# EAGLE library part EG4D20EG176 (library anlogic)
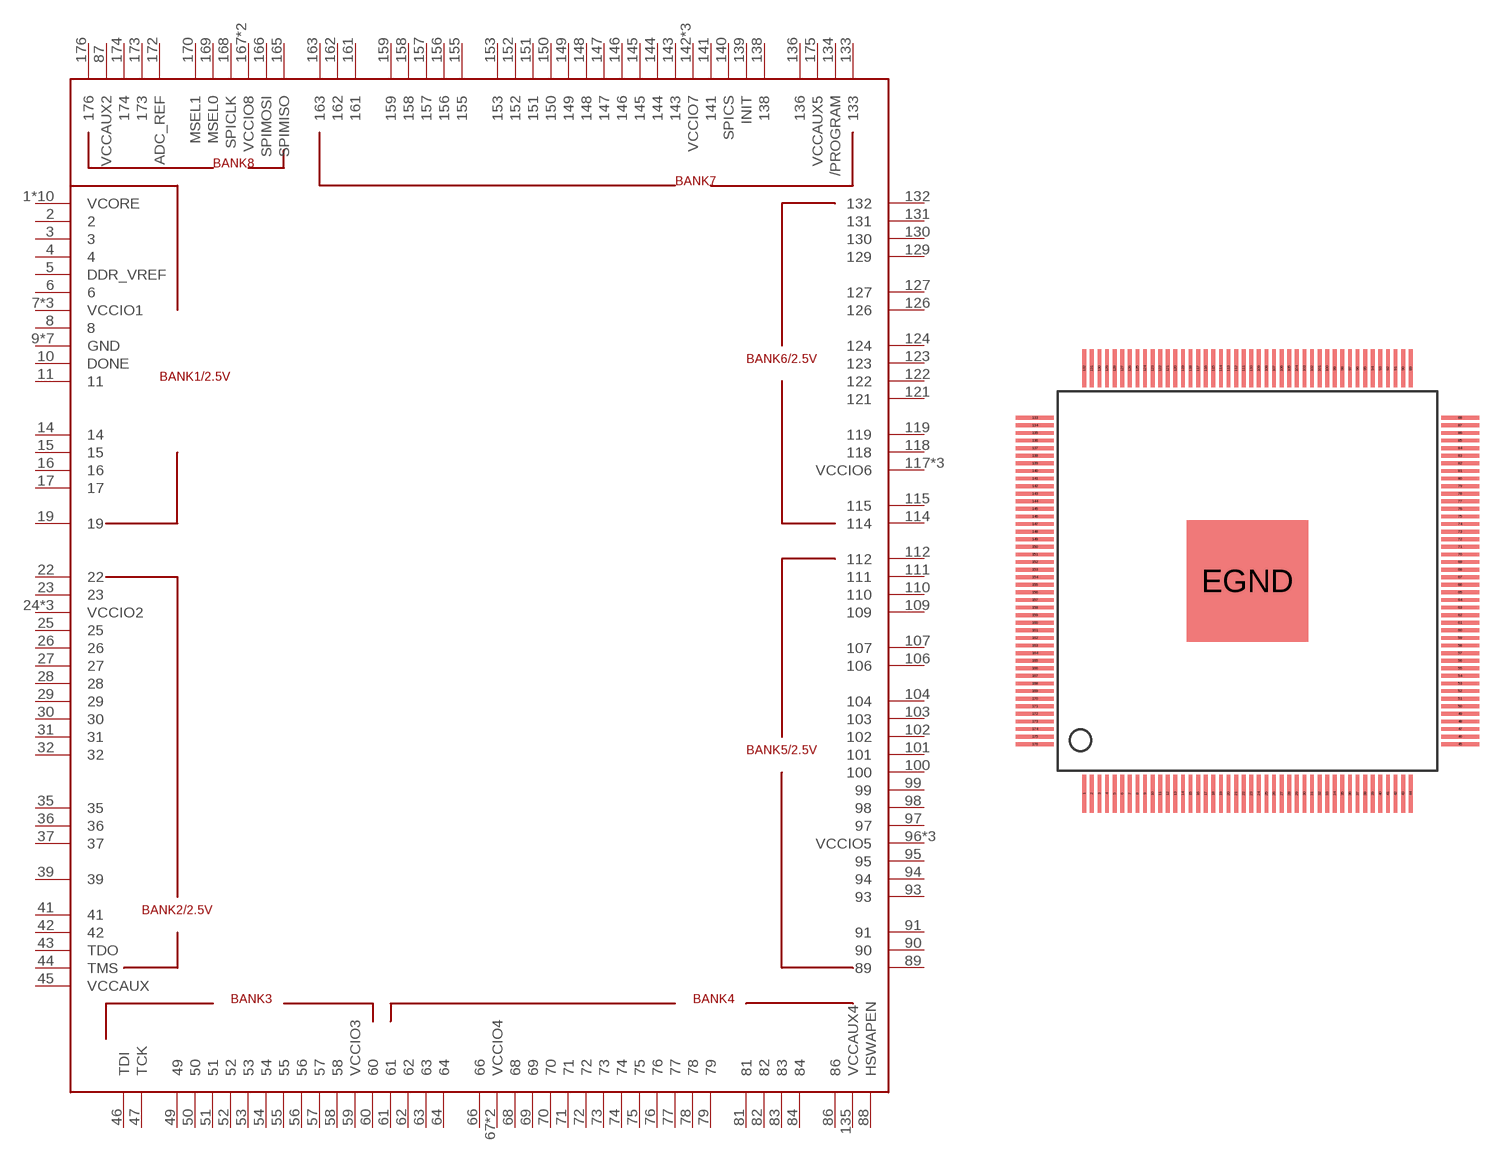
[diagram p1: symbol with the pads of ELQFP176L; footprint ELQFP176L]

Designator prefix -

## EG4D20EG176  [ELQFP176L]
1  VCORE
2  2
3  3
4  4
5  DDR_VREF
6  6
7  VCCIO1
8  8
9  GND
10  DONE
11  11
12  VCCIO1
13  GND
14  14
15  15
16  16
17  17
18  VCCIO1
19  19
20  VCORE
21  GND
22  22
23  23
24  VCCIO2
25  25
26  26
27  27
28  28
29  29
30  30
31  31
32  32
33  GND
34  VCCIO2
35  35
36  36
37  37
38  GND
39  39
40  VCCIO2
41  41
42  42
43  TDO
44  TMS
45  VCCAUX
46  TDI
47  TCK
48  VCORE
49  49
50  50
51  51
52  52
53  53
54  54
55  55
56  56
57  57
58  58
59  VCCIO3
60  60
61  61
62  62
63  63
64  64
65  VCORE
66  66
67  VCCIO4
68  68
69  69
70  70
71  71
72  72
73  73
74  74
75  75
76  76
77  77
78  78
79  79
80  VCCIO4
81  81
82  82
83  83
84  84
85  VCORE
86  86
87  VCCAUX2
88  HSWAPEN
89  89
90  90
91  91
92  VCORE
93  93
94  94
95  95
96  VCCIO5
97  97
98  98
99  99
100  100
101  101
102  102
103  103
104  104
105  VCCIO5
106  106
107  107
108  VCCIO5
109  109
110  110
111  111
112  112
113  VCORE
114  114
115  115
116  GND
117  VCCIO6
118  118
119  119
120  VCCIO6
121  121
122  122
123  123
124  124
125  VCCIO6
126  126
127  127
128  VCORE
129  129
130  130
131  131
132  132
133  133
134  /PROGRAM
135  VCCAUX4
136  136
137  VCORE
138  138
139  INIT
140  SPICS
141  141
142  VCCIO7
143  143
144  144
145  145
146  146
147  147
148  148
149  149
150  150
151  151
152  152
153  153
154  VCCIO7
155  155
156  156
157  157
158  158
159  159
160  VCCIO7
161  161
162  162
163  163
164  VCORE
165  SPIMISO
166  SPIMOSI
167  VCCIO8
168  SPICLK
169  MSEL0
170  MSEL1
171  VCCIO8
172  ADC_REF
173  173
174  174
175  VCCAUX5
176  176
EGND  GND

## Footprint ELQFP176L (pad centres in mm)
smd 0.2 x 2: 1 -8.6,-11.2; 2 -8.2,-11.2; 3 -7.8,-11.2; 4 -7.4,-11.2; 5 -7,-11.2; 6 -6.6,-11.2; 7 -6.2,-11.2; 8 -5.8,-11.2; 9 -5.4,-11.2; 10 -5,-11.2; 11 -4.6,-11.2; 12 -4.2,-11.2; 13 -3.8,-11.2; 14 -3.4,-11.2; 15 -3,-11.2; 16 -2.6,-11.2; 17 -2.2,-11.2; 18 -1.8,-11.2; 19 -1.4,-11.2; 20 -1,-11.2; 21 -0.6,-11.2; 22 -0.2,-11.2; 23 0.2,-11.2; 24 0.6,-11.2; 25 1,-11.2; 26 1.4,-11.2; 27 1.8,-11.2; 28 2.2,-11.2; 29 2.6,-11.2; 30 3,-11.2; 31 3.4,-11.2; 32 3.8,-11.2; 33 4.2,-11.2; 34 4.6,-11.2; 35 5,-11.2; 36 5.4,-11.2; 37 5.8,-11.2; 38 6.2,-11.2; 39 6.6,-11.2; 40 7,-11.2; 41 7.4,-11.2; 42 7.8,-11.2; 43 8.2,-11.2; 44 8.6,-11.2; 89 8.6,11.2; 90 8.2,11.2; 91 7.8,11.2; 92 7.4,11.2; 93 7,11.2; 94 6.6,11.2; 95 6.2,11.2; 96 5.8,11.2; 97 5.4,11.2; 98 5,11.2; 99 4.6,11.2; 100 4.2,11.2; 101 3.8,11.2; 102 3.4,11.2; 103 3,11.2; 104 2.6,11.2; 105 2.2,11.2; 106 1.8,11.2; 107 1.4,11.2; 108 1,11.2; 109 0.6,11.2; 110 0.2,11.2; 111 -0.2,11.2; 112 -0.6,11.2; 113 -1,11.2; 114 -1.4,11.2; 115 -1.8,11.2; 116 -2.2,11.2; 117 -2.6,11.2; 118 -3,11.2; 119 -3.4,11.2; 120 -3.8,11.2; 121 -4.2,11.2; 122 -4.6,11.2; 123 -5,11.2; 124 -5.4,11.2; 125 -5.8,11.2; 126 -6.2,11.2; 127 -6.6,11.2; 128 -7,11.2; 129 -7.4,11.2; 130 -7.8,11.2; 131 -8.2,11.2; 132 -8.6,11.2
smd 2 x 0.2: 45 11.2,-8.6; 46 11.2,-8.2; 47 11.2,-7.8; 48 11.2,-7.4; 49 11.2,-7; 50 11.2,-6.6; 51 11.2,-6.2; 52 11.2,-5.8; 53 11.2,-5.4; 54 11.2,-5; 55 11.2,-4.6; 56 11.2,-4.2; 57 11.2,-3.8; 58 11.2,-3.4; 59 11.2,-3; 60 11.2,-2.6; 61 11.2,-2.2; 62 11.2,-1.8; 63 11.2,-1.4; 64 11.2,-1; 65 11.2,-0.6; 66 11.2,-0.2; 67 11.2,0.2; 68 11.2,0.6; 69 11.2,1; 70 11.2,1.4; 71 11.2,1.8; 72 11.2,2.2; 73 11.2,2.6; 74 11.2,3; 75 11.2,3.4; 76 11.2,3.8; 77 11.2,4.2; 78 11.2,4.6; 79 11.2,5; 80 11.2,5.4; 81 11.2,5.8; 82 11.2,6.2; 83 11.2,6.6; 84 11.2,7; 85 11.2,7.4; 86 11.2,7.8; 87 11.2,8.2; 88 11.2,8.6; 133 -11.2,8.6; 134 -11.2,8.2; 135 -11.2,7.8; 136 -11.2,7.4; 137 -11.2,7; 138 -11.2,6.6; 139 -11.2,6.2; 140 -11.2,5.8; 141 -11.2,5.4; 142 -11.2,5; 143 -11.2,4.6; 144 -11.2,4.2; 145 -11.2,3.8; 146 -11.2,3.4; 147 -11.2,3; 148 -11.2,2.6; 149 -11.2,2.2; 150 -11.2,1.8; 151 -11.2,1.4; 152 -11.2,1; 153 -11.2,0.6; 154 -11.2,0.2; 155 -11.2,-0.2; 156 -11.2,-0.6; 157 -11.2,-1; 158 -11.2,-1.4; 159 -11.2,-1.8; 160 -11.2,-2.2; 161 -11.2,-2.6; 162 -11.2,-3; 163 -11.2,-3.4; 164 -11.2,-3.8; 165 -11.2,-4.2; 166 -11.2,-4.6; 167 -11.2,-5; 168 -11.2,-5.4; 169 -11.2,-5.8; 170 -11.2,-6.2; 171 -11.2,-6.6; 172 -11.2,-7; 173 -11.2,-7.4; 174 -11.2,-7.8; 175 -11.2,-8.2; 176 -11.2,-8.6
smd 6.4 x 6.4: EGND 0,0